# EAGLE library part 13V10 (library tubes_pmillett)
Dissimilar double pentode
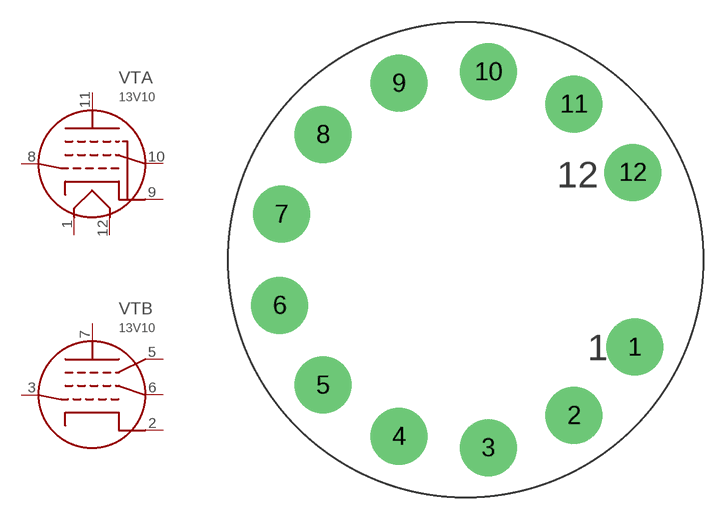
[diagram p141: symbol with the pads of COMPACTRON_BOT; footprint COMPACTRON_BOT]

Designator prefix VT; gates A=PENTODE_12EZ_1 B=PENTODE_12EZ_2

## 13V10  [COMPACTRON_BOT]
1  A:F1  pas
2  B:K  pas
3  B:G1  pas
5  B:G3  pas
6  B:G2  pas
7  B:P  pas
8  A:G1  pas
9  A:K  pas
10  A:G2  pas
11  A:P  pas
12  A:F2  pas

## Footprint COMPACTRON_BOT (pad centres in mm)
12-PIN COMPACTRON MTD BOTTOM SIDE
drill 2.184 pad 3.81: 1 11.303,-5.842; 2 7.239,-10.414; 3 1.524,-12.573; 4 -4.445,-11.811; 5 -9.525,-8.382; 6 -12.446,-3.048; 7 -12.319,3.048; 8 -9.525,8.382; 9 -4.445,11.811; 10 1.524,12.573; 11 7.239,10.414; 12 11.176,5.842